# EAGLE library part CCAPM (library wheat)
Coupling cap, multiple footprints
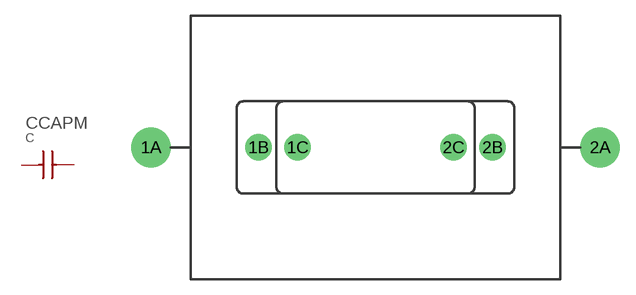
[diagram p93: symbol with the pads of CCAPM; footprint CCAPM]

Designator prefix C

## CCAPM  [CCAPM]
1A  1A  pas
1B  1B  pas
1C  1C  pas
2A  2A  pas
2B  2B  pas
2C  2C  pas

## Footprint CCAPM (pad centres in mm)
Coupling cap, multiple footprint
drill 1.778 pad 3.81: 1A -21.59,0; 2A 21.59,0
drill 1.27 pad 2.54: 1B -11.252,0; 1C -7.493,0; 2B 11.252,0; 2C 7.493,0